# Altium schematic symbol library BQ25883RGER.SchLib: 1 symbol
Pins are listed as number, name and electrical type; pins without a type are passive.

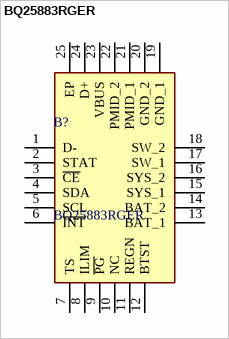
[diagram p0: symbol BQ25883RGER]

## BQ25883RGER
designator B?
Battery Management BQ25883RGE; Manufacturer_Name: Texas Instruments; Geometry.Height: 1mm; Mouser Part Number: 595-BQ25883RGER; Mouser Price/Stock: https://www.mouser.co.uk/ProductDetail/Texas-Instruments/BQ25883RGER?qs=EBDBlbfErPxzP5IdwHZrfw%3D%3D; Manufacturer_Part_Number: BQ25883RGER; Datasheet Link: http://www.ti.com/lit/ds/symlink/bq25883.pdf?HQS=TI-null-null-mousermode-df-pf-null-wwe&DCM=yes&ref_url=https%3A%2F%2Fwww.mouser.co.uk%2F
footprint QFN50P400X400X100-25N-D
pins: 1 D-, 2 STAT, 3 ~{CE}, 4 SDA, 5 SCL, 6 ~{INT}, 7 TS, 8 ILIM, 9 ~{PG}, 10 NC, 11 REGN, 12 BTST, 13 BAT_1, 14 BAT_2, 15 SYS_1, 16 SYS_2, 17 SW_1, 18 SW_2, 19 GND_1, 20 GND_2, 21 PMID_1, 22 PMID_2, 23 VBUS, 24 D+, 25 EP